# Altium schematic symbol library stomp_switch.SchLib: 1 symbol
Pins are listed as number, name and electrical type; pins without a type are passive.

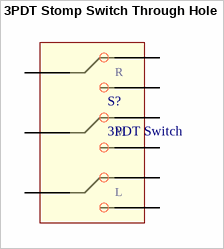
[diagram p0: symbol 3PDT Stomp Switch Through Hole]

## 3PDT Stomp Switch Through Hole
designator S?, comment 3PDT Switch
Link: http://www.taydaelectronics.com/3pdt-stomp-foot-pedal-switch-pcb.html
footprint stomp_switch (stomp switch 3PDT)
pins: 1 T11, 2 P1, 3 T12, 4 T21, 5 P2, 6 T22, 7 T31, 8 P3, 9 T32
text: R; M; L